# EAGLE library part ESP32-C3_SUPERMINI (library masterclock)
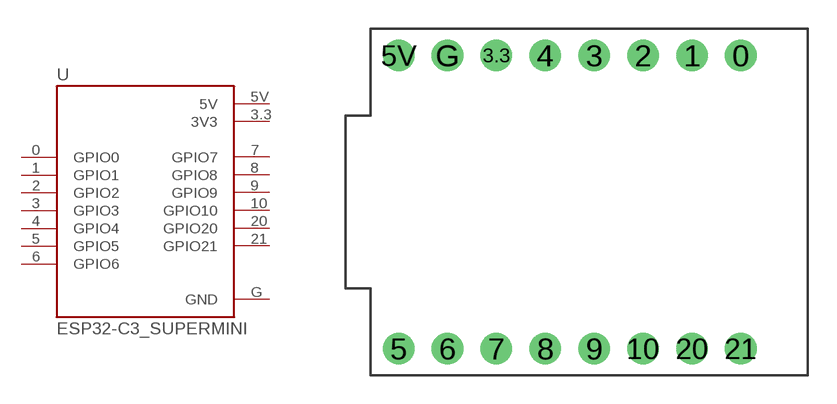
[diagram p2: symbol with the pads of ESP32-C3_SUPERMINI_MODULE_ESP32-C3_SUPERMINI; footprint ESP32-C3_SUPERMINI_MODULE_ESP32-C3_SUPERMINI]

Designator prefix -

## ESP32-C3_SUPERMINI  [ESP32-C3_SUPERMINI_MODULE_ESP32-C3_SUPERMINI]
0  GPIO0
1  GPIO1
2  GPIO2
3  GPIO3
3.3  3V3  pwr
4  GPIO4
5  GPIO5
5V  5V  pwr
6  GPIO6
7  GPIO7
8  GPIO8
9  GPIO9
10  GPIO10
20  GPIO20
21  GPIO21
G  GND  pwr

## Footprint ESP32-C3_SUPERMINI_MODULE_ESP32-C3_SUPERMINI (pad centres in mm)
drill 0.8 pad 1.64: 0 8.89,7.62; 1 6.35,7.62; 2 3.81,7.62; 3 1.27,7.62; 3.3 -3.81,7.62; 4 -1.27,7.62; 5 -8.89,-7.62; 5V -8.89,7.62; 6 -6.35,-7.62; 7 -3.81,-7.62; 8 -1.27,-7.62; 9 1.27,-7.62; 10 3.81,-7.62; 20 6.35,-7.62; 21 8.89,-7.62; G -6.35,7.62